# EAGLE library part 74LVX3245 (library digital)
74LVX3245: 8-bit translating transceiver (Fairchild) Tristate, for 3V/5V conversion, 9ns delay
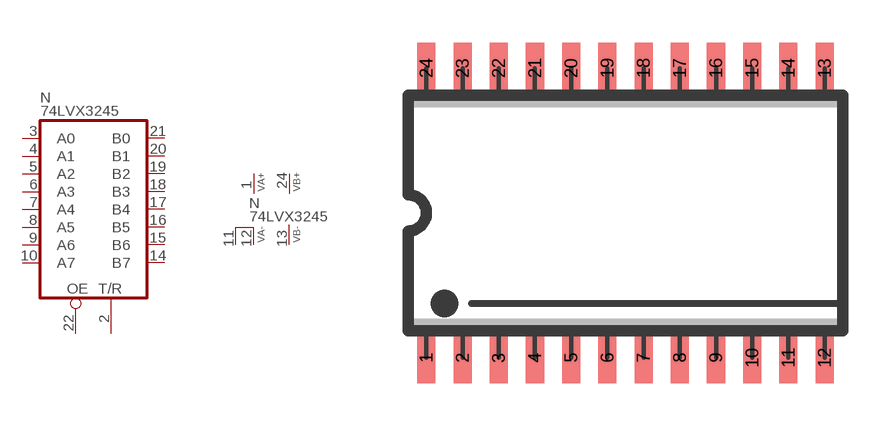
[diagram p64: symbol with the pads of SO24W; footprint SO24W]

Designator prefix N; gates G=74LVX3245 P=V2+3-

## 74LVX3245  [SO24W]
1  P:VA+  pwr
2  G:T/R  in
3  G:A0
4  G:A1
5  G:A2
6  G:A3
7  G:A4
8  G:A5
9  G:A6
10  G:A7
11  P:VA-  pwr
12  P:VA-  pwr
13  P:VB-  pwr
14  G:B7
15  G:B6
16  G:B5
17  G:B4
18  G:B3
19  G:B2
20  G:B1
21  G:B0
22  G:OE  in
24  P:VB+  pwr

## Footprint SO24W (pad centres in mm)
SO-24, SMD wide SOIC IC package, 24 pins, wide
smd 0.635 x 1.778: 1 -6.985,-5.08; 2 -5.715,-5.08; 3 -4.445,-5.08; 4 -3.175,-5.08; 5 -1.905,-5.08; 6 -0.635,-5.08; 7 0.635,-5.08; 8 1.905,-5.08; 9 3.175,-5.08; 10 4.445,-5.08; 11 5.715,-5.08; 12 6.985,-5.08; 13 6.985,5.08; 14 5.715,5.08; 15 4.445,5.08; 16 3.175,5.08; 17 1.905,5.08; 18 0.635,5.08; 19 -0.635,5.08; 20 -1.905,5.08; 21 -3.175,5.08; 22 -4.445,5.08; 23 -5.715,5.08; 24 -6.985,5.08